# Altium schematic symbol library WA-SMSI.SchLib: 1 symbol
Pins are listed as number, name and electrical type; pins without a type are passive.

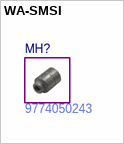
[diagram p0: symbol WA-SMSI]

## WA-SMSI
designator MH?  Manufacturer Part Number: 9774050243  (hidden comment: *)
1 alternate drawing of the same symbol